# Altium footprint library 2019-06-07_15-16-45.PcbLib: 1 footprints
Each footprint in its own frame and in the unit in brackets; x right, y up, seen from the top. Pads: shape width x height; smd on the part's side, far side on the other; paste and mask are expansions set on the pad; w line width, h text height; cw(c..) or ccw(c..) is an arc to the next point about the centre after c.
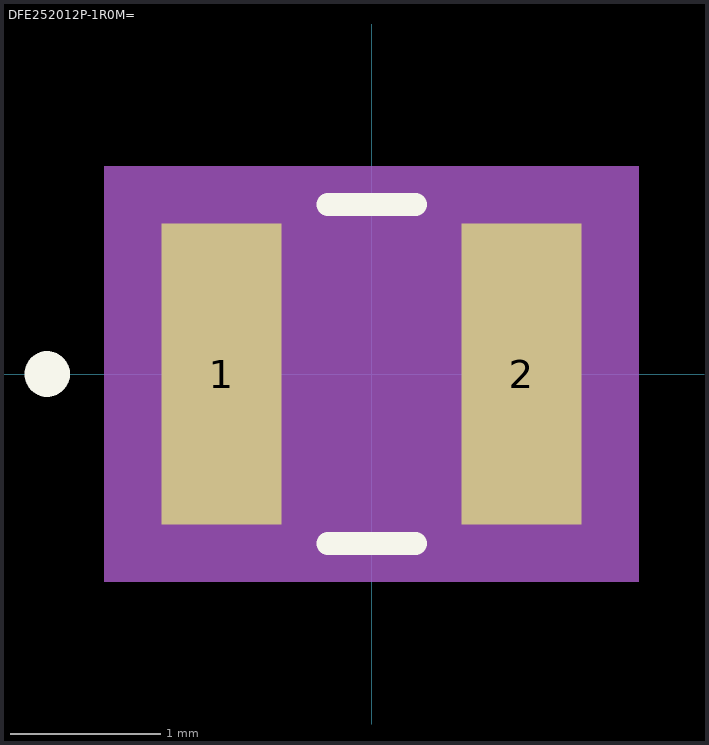
[diagram p0: the footprint, top view; thin cyan lines are the x and y axes]

## DFE252012P-1R0M= [mm]
pads (2):
  rect 0.8x2.007 smd paste+0 mask+0: 1(-1,0) 2(1,0)
Top Overlay:
  circle w0.152: c-2.162,0 r0.076
  lines w0.152: -0.292,-1.13 0.292,-1.13 ; -0.292,1.13 0.292,1.13
Mechanical 5:
  region: 1.781,-1.384 -1.781,-1.384 -1.781,1.384 1.781,1.384
Mechanical 13:
  circle w0: c-1.168,0 r0.076
  lines w0.025: -1.245,-1.003 -1.245,1.003 1.245,1.003 1.245,-1.003 -1.245,-1.003
Mechanical 15:
  region: -1.499,-1.257 -1.654,-1.257 -1.654,1.257 -1.499,1.257 1.499,1.257 1.654,1.257 1.654,-1.257 1.499,-1.257
  lines w0.152: -1.654,-1.257 -1.499,-1.257 1.499,-1.257 1.654,-1.257 1.654,1.257 1.499,1.257 -1.499,1.257 -1.654,1.257 -1.654,-1.257
3D body: height 0.25, standoff 0, extent 0,0 0.254,0.254